# EAGLE library part DAC0800 (library _mtvl_ic)
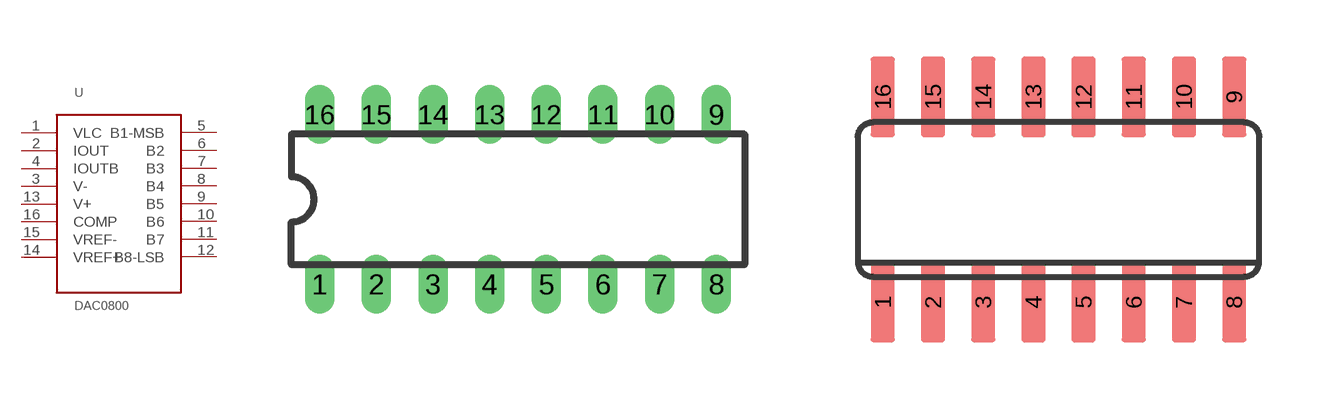
[diagram p3: symbol with the pads of DIL16_TW; footprints DIL16_TW, SO16_TW]

Designator prefix -

## DAC0800LCN  [DIL16_TW]
1  VLC
2  IOUT
3  V-
4  IOUTB
5  B1-MSB
6  B2
7  B3
8  B4
9  B5
10  B6
11  B7
12  B8-LSB
13  V+
14  VREF+
15  VREF-
16  COMP

## DAC0800LCM  [SO16_TW]
Pads as for DIL16_TW

## Footprint DIL16_TW (pad centres in mm)
Dual In Line Package
drill 0.813 long: 1 -8.89,-3.81; 2 -6.35,-3.81; 3 -3.81,-3.81; 4 -1.27,-3.81; 5 1.27,-3.81; 6 3.81,-3.81; 7 6.35,-3.81; 8 8.89,-3.81; 9 8.89,3.81; 10 6.35,3.81; 11 3.81,3.81; 12 1.27,3.81; 13 -1.27,3.81; 14 -3.81,3.81; 15 -6.35,3.81; 16 -8.89,3.81

## Footprint SO16_TW (pad centres in mm)
Small Outline package 150 mil
smd 0.61 x 2.032: 1 -4.445,-2.6; 2 -3.175,-2.6; 3 -1.905,-2.6; 4 -0.635,-2.6; 5 0.635,-2.6; 6 1.905,-2.6; 7 3.175,-2.6; 8 4.445,-2.6; 9 4.445,2.6; 10 3.175,2.6; 11 1.905,2.6; 12 0.635,2.6; 13 -0.635,2.6; 14 -1.905,2.6; 15 -3.175,2.6; 16 -4.445,2.6